# Altium schematic symbol library SCH - LOGIC - TI SN74LVC1G04 5PIN.SchLib: 1 symbol
Pins are listed as number, name and electrical type; pins without a type are passive.

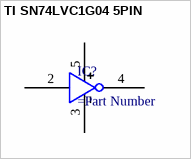
[diagram p0: symbol TI SN74LVC1G04 5PIN]

## TI SN74LVC1G04 5PIN
designator IC?
pins: 2 1A, 3 GND, 4 1Y, 5 VCC